# Altium schematic symbol library simple.SchLib: 14 symbols
Pins are listed as number, name and electrical type; pins without a type are passive.

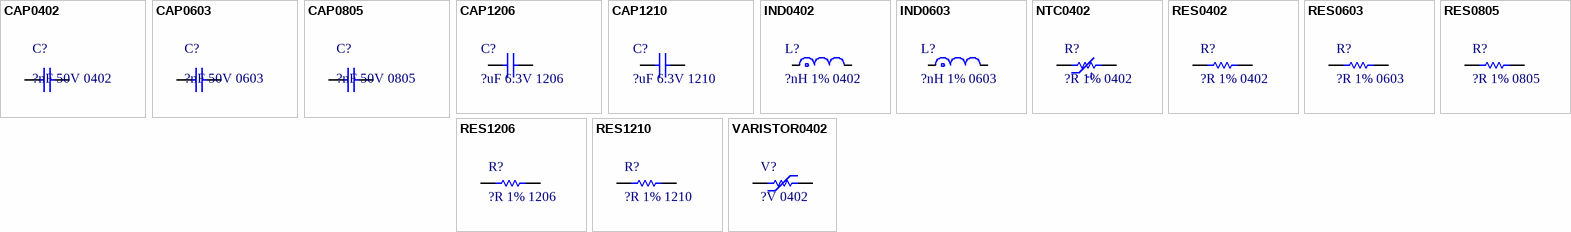
[diagram p0: symbols CAP0402 to VARISTOR0402]

## CAP0402
designator C?, comment ?nF 50V 0402
Chip Capacitor, 0402 (1005 Metric)
footprint CAPC1005X55X25LL5T10 (Chip Capacitor, 2-Leads, Body 1.05x0.55mm, IPC High Density)
footprint CAPC1005X55X25ML5T10 (Chip Capacitor, 2-Leads, Body 1.05x0.55mm, IPC Low Density)
footprint CAPC1005X55X25NL5T10 (Chip Capacitor, 2-Leads, Body 1.05x0.55mm, IPC Medium Density)
footprint CAP0402
footprint RLP-130A (IPC-SM-782 RLP-130A)
pins: 1, 2

## CAP0603
designator C?, comment ?nF 50V 0603
Chip Capacitor, 0603 (1608 Metric)
footprint CAPC1608X90X35ML10T15 (Chip Capacitor, 2-Leads, Body 1.7x0.9mm, IPC Low Density)
footprint CAPC1608X90X35NL10T15 (Chip Capacitor, 2-Leads, Body 1.7x0.9mm, IPC Medium Density)
footprint CAPC1608X90X35LL10T15 (Chip Capacitor, 2-Leads, Body 1.7x0.9mm, IPC High Density)
pins: 1, 2

## CAP0805
designator C?, comment ?nF 50V 0805
Chip Capacitor, 0805 (2012 Metric)
footprint CAPC2013X135X45LL10T25 (Chip Capacitor, 2-Leads, Body 2.00x1.25mm, IPC High Density)
footprint CAPC2013X135X45ML10T25 (Chip Capacitor, 2-Leads, Body 2.10x1.35mm, IPC Low Density)
footprint CAPC2013X135X45NL10T25 (Chip Capacitor, 2-Leads, Body 2.10x1.35mm, IPC Medium Density)
pins: 1, 2

## CAP1206
designator C?, comment ?uF 6.3V 1206
Chip Capacitor, 1206 (3216 Metric)
footprint CAPC3216X180X55NL20T25 (Chip Capacitor, 2-Leads, Body 3.4x1.8mm, IPC Medium Density)
footprint CAPC3216X180X55ML20T25 (Chip Capacitor, 2-Leads, Body 3.4x1.8mm, IPC Low Density)
footprint CAPC3216X180X55LL20T25 (Chip Capacitor, 2-Leads, Body 3.4x1.8mm, IPC High Density)
footprint FP-C3216-160-0_2-IPC_A
footprint FP-C3216-160-0_2-IPC_B
footprint FP-C3216-160-0_2-IPC_B-NOSILK
footprint FP-C3216-160-0_2-IPC_C
footprint FP-C3216-160-0_2-IPC_C-NOSILK
footprint FP-C3216-160-0_2-MFG
pins: 1, 2

## CAP1210
designator C?, comment ?uF 6.3V 1210
Chip Capacitor, 1210 (3225 Metric)
footprint FP-CL32-IPC_A
footprint FP-CL32-IPC_B
footprint FP-CL32-IPC_C
pins: 1, 2

## IND0402
designator L?, comment ?nH 1% 0402
footprint FP-LQG15HH_02-IPC_A
footprint FP-LQG15HH_02-IPC_B
footprint FP-LQG15HH_02-IPC_C
footprint FP-LQG15HH_02-MFG
pins: 1, 2

## IND0603
designator L?, comment ?nH 1% 0603
footprint FP-LQG18HH_00-IPC_A
footprint FP-LQG18HH_00-IPC_B
footprint FP-LQG18HH_00-IPC_C
footprint FP-LQG18HH_00-MFG
pins: 1, 2

## NTC0402
designator R?, comment ?R 1% 0402
Chip NTC,  0402 (1005 Metric)
footprint RESC1005X40X25LL05T05 (Chip Resistor, 2-Leads, Body 1.05x0.55mm, IPC High Density)
footprint RESC1005X40X25ML05T05 (Chip Resistor, 2-Leads, Body 1.05x0.55mm, IPC Low Density)
footprint RESC1005X40X25NL05T05 (Chip Resistor, 2-Leads, Body 1.05x0.55mm, IPC Medium Density)
footprint RES0402
footprint RLP-100A (IPC-SM-782 RLP-100A)
pins: 1, 2
text: -t

## RES0402
designator R?, comment ?R 1% 0402
Chip Resistor,  0402 (1005 Metric)
footprint RESC1005X40X25LL05T05 (Chip Resistor, 2-Leads, Body 1.05x0.55mm, IPC High Density)
footprint RESC1005X40X25ML05T05 (Chip Resistor, 2-Leads, Body 1.05x0.55mm, IPC Low Density)
footprint RESC1005X40X25NL05T05 (Chip Resistor, 2-Leads, Body 1.05x0.55mm, IPC Medium Density)
footprint RES0402
footprint RLP-100A (IPC-SM-782 RLP-100A)
pins: 1, 2

## RES0603
designator R?, comment ?R 1% 0603
Chip Resistor,  0603 (1608 Metric)l
footprint RESC1609X55X30NL15T15 (Chip Resistor, 2-Leads, Body 1.75x0.95mm, IPC Medium Density)
footprint RESC1609X55X30ML15T15 (Chip Resistor, 2-Leads, Body 1.75x0.95mm, IPC Low Density)
footprint RESC1609X55X30LL15T15 (Chip Resistor, 2-Leads, Body 1.75x0.95mm, IPC High Density)
pins: 1, 2

## RES0805
designator R?, comment ?R 1% 0805
Chip Resistor,  0805 (2012 Metric)
footprint RESC2013X60X35LL10T20 (Chip Resistor, 2-Leads, Body 2.1x1.35mm, IPC High Density)
footprint RESC2013X60X35ML10T20 (Chip Resistor, 2-Leads, Body 2.1x1.35mm, IPC Low Density)
footprint RESC2013X60X35NL10T20 (Chip Resistor, 2-Leads, Body 2.1x1.35mm, IPC Medium Density)
pins: 1, 2

## RES1206
designator R?, comment ?R 1% 1206
Chip Resistor,  1206 (3216 Metric)
footprint RESC3116X65X45ML15T20 (Chip Resistor, 2-Leads, Body 3.25x1.7mm, IPC Low Density)
footprint RESC3116X65X45LL15T20 (Chip Resistor, 2-Leads, Body 3.25x1.7mm, IPC High Density)
footprint RESC3116X65X45NL15T20 (Chip Resistor, 2-Leads, Body 3.25x1.7mm, IPC Medium Density)
footprint FP-RC1206-IPC_A
footprint FP-RC1206-IPC_B
footprint FP-RC1206-IPC_C
footprint FP-RC1206-MFG
pins: 1, 2

## RES1210
designator R?, comment ?R 1% 1210
Chip Resistor,  1210 (5025 Metric)
footprint FP-CRCW2010-e3-IPC_C
footprint FP-CRCW2010-e3-IPC_B
footprint FP-CRCW2010-e3-IPC_A
footprint FP-CRCW2010-e3-MFG
pins: 1, 2

## VARISTOR0402
designator V?, comment ?V 0402
Chip Varistor,  0402 (1005 Metric)
footprint RESC1005X40X25LL05T05 (Chip Resistor, 2-Leads, Body 1.05x0.55mm, IPC High Density)
footprint RESC1005X40X25ML05T05 (Chip Resistor, 2-Leads, Body 1.05x0.55mm, IPC Low Density)
footprint RESC1005X40X25NL05T05 (Chip Resistor, 2-Leads, Body 1.05x0.55mm, IPC Medium Density)
footprint RES0402
footprint RLP-100A (IPC-SM-782 RLP-100A)
pins: 1, 2